# Altium integrated library ST Audio Tone Vol Bal Control.IntLib: 1 symbol
Pins are listed as number, name and electrical type; pins without a type are passive.

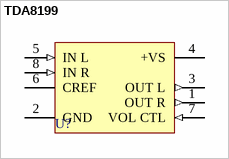
[diagram p0: symbol TDA8199]

## TDA8199
designator U?
Stereo Amplifier and DC Volume Control for TV; Published: 24-Aug-2001; LatestRevisionDate: 17-Jul-2002; LatestRevisionNote: Re-released for DXP Platform.; DatasheetDocument: May-1996; PackageReference: DIP8; Publisher: Altium Limited; Code_JEDEC: MO-001-AN
footprint DIP8 (DIP; 8 Leads; Row Spacing 7.62 mm; Pitch 2.54 mm)
pins: 1 OUT R (out), 2 GND (power), 3 OUT L (out), 4 +VS (power), 5 IN L (in), 6 CREF, 7 VOL CTL (in), 8 IN R (in)